# Altium schematic symbol library 升压降压模块.SchLib: 2 symbols
Pins are listed as number, name and electrical type; pins without a type are passive.

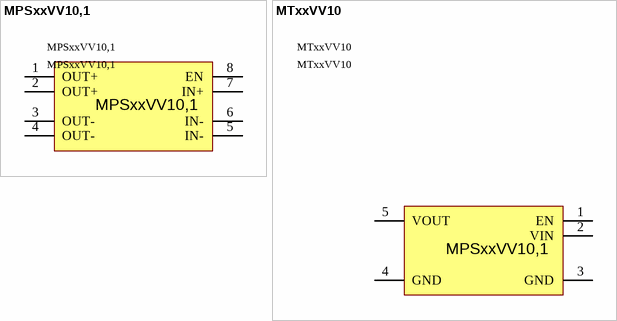
[diagram p0: symbols MPSxxVV10,1 to MTxxVV10]

## MPSxxVV10,1
designator MPSxxVV10,1
pins: 1 OUT+, 2 OUT+, 3 OUT-, 4 OUT-, 5 IN-, 6 IN-, 7 IN+, 8 EN

## MTxxVV10
designator MTxxVV10
pins: 1 EN, 2 VIN, 3 GND, 4 GND, 5 VOUT
text: MPSxxVV10,1